# Altium footprint library Alcetronics_EM.PcbLib: 63 footprints (part 1 of 4)
Each footprint in its own frame and in the unit in brackets; x right, y up, seen from the top. Pads: shape width x height; smd on the part's side, far side on the other; paste and mask are expansions set on the pad; w line width, h text height; cw(c..) or ccw(c..) is an arc to the next point about the centre after c.
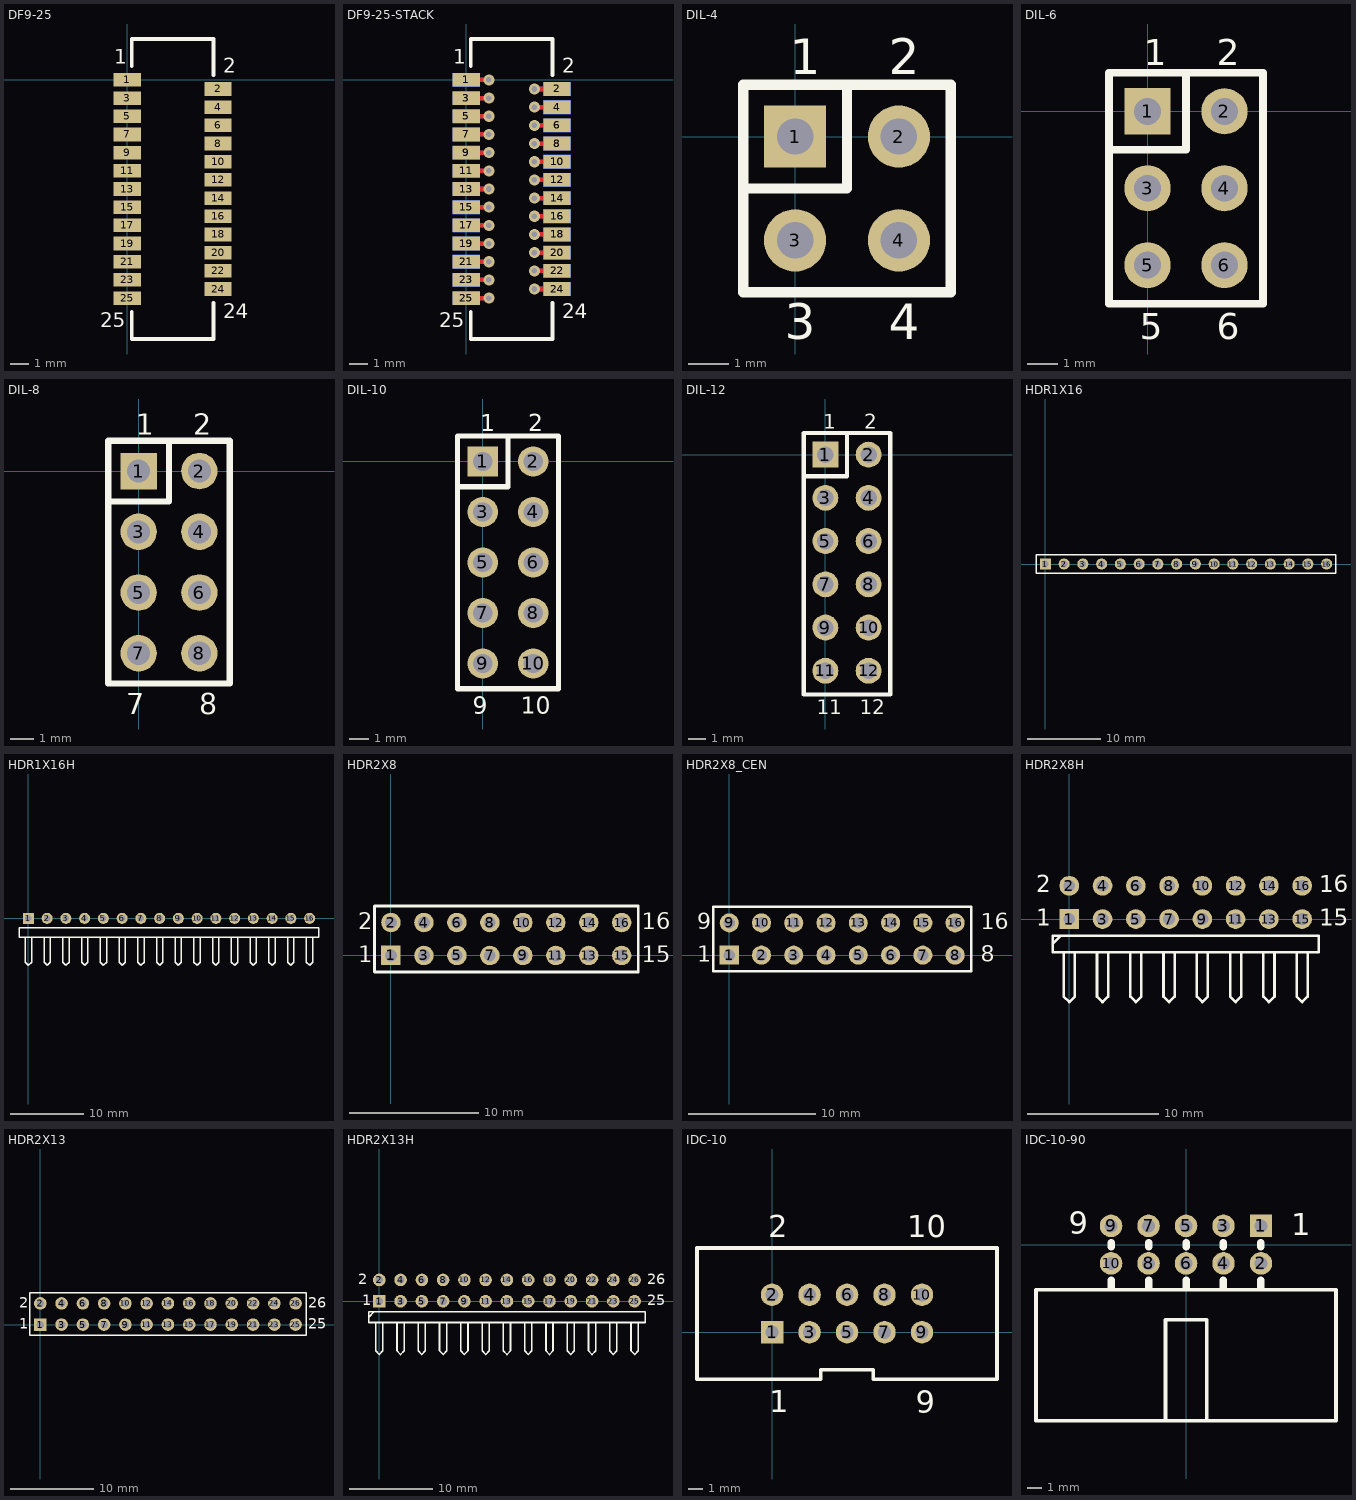
[diagram p0: the footprints below, top view; thin cyan lines are the x and y axes]

## DF9-25 [mm] "Hirose DF9 25P CON"
height 3.3
pads (25):
  rect 1.5x0.75 smd: 1(0,0) 2(5,-0.5) 3(0,-1) 4(5,-1.5) 5(0,-2) 6(5,-2.5) 7(0,-3) 8(5,-3.5) 9(0,-4) 10(5,-4.5) 11(0,-5) 12(5,-5.5) 13(0,-6) 14(5,-6.5) 15(0,-7) 16(5,-7.5) 17(0,-8) 18(5,-8.5) 19(0,-9) 20(5,-9.5) 21(0,-10) 22(5,-10.5) 23(0,-11) 24(5,-11.5) 25(0,-12)
Top Overlay:
  lines w0.2: 0.25,-12.75 0.25,-14.25 4.75,-14.25 4.75,-12.25 ; 0.25,0.75 0.25,2.25 4.75,2.25 4.75,0.25
  text "1" at -0.725,0.9 h0.8
  text "2" at 5.275,0.4 h0.8
  text "24" at 5.275,-13.1 h0.8
  text "25" at -1.475,-13.6 h0.8

## DF9-25-STACK [mm] "Hirose DF9 25P CON - STACKED"
height 3.3
pads (50):
  rect 1.5x0.75 smd: 1(0,0) 2(5,-0.5) 3(0,-1) 4(5,-1.5) 5(0,-2) 6(5,-2.5) 7(0,-3) 8(5,-3.5) 9(0,-4) 10(5,-4.5) 11(0,-5) 12(5,-5.5) 13(0,-6) 14(5,-6.5) 15(0,-7) 16(5,-7.5) 17(0,-8) 18(5,-8.5) 19(0,-9) 20(5,-9.5) 21(0,-10) 22(5,-10.5) 23(0,-11) 24(5,-11.5) 25(0,-12)
  rect 1.5x0.75 smd far side: 1(0,0) 2(5,-0.5) 3(0,-1) 4(5,-1.5) 5(0,-2) 6(5,-2.5) 7(0,-3) 8(5,-3.5) 9(0,-4) 10(5,-4.5) 11(0,-5) 12(5,-5.5) 13(0,-6) 14(5,-6.5) 15(0,-7) 16(5,-7.5) 17(0,-8) 18(5,-8.5) 19(0,-9) 20(5,-9.5) 21(0,-10) 22(5,-10.5) 23(0,-11) 24(5,-11.5) 25(0,-12)
via 3.75,-11.5 diameter 0.61 hole 0.305
via 3.75,-10.5 diameter 0.61 hole 0.305
via 3.75,-9.5 diameter 0.61 hole 0.305
via 3.75,-8.5 diameter 0.61 hole 0.305
via 3.75,-7.5 diameter 0.61 hole 0.305
via 3.75,-6.5 diameter 0.61 hole 0.305
via 3.75,-5.5 diameter 0.61 hole 0.305
via 3.75,-4.5 diameter 0.61 hole 0.305
via 3.75,-3.5 diameter 0.61 hole 0.305
via 3.75,-2.5 diameter 0.61 hole 0.305
via 3.75,-1.5 diameter 0.61 hole 0.305
via 3.75,-0.5 diameter 0.61 hole 0.305
via 1.25,-12 diameter 0.61 hole 0.305
via 1.25,-11 diameter 0.61 hole 0.305
via 1.25,-10 diameter 0.61 hole 0.305
via 1.25,-9 diameter 0.61 hole 0.305
via 1.25,-8 diameter 0.61 hole 0.305
via 1.25,-7 diameter 0.61 hole 0.305
via 1.25,-6 diameter 0.61 hole 0.305
via 1.25,-5 diameter 0.61 hole 0.305
via 1.25,-4 diameter 0.61 hole 0.305
via 1.25,-3 diameter 0.61 hole 0.305
via 1.25,-2 diameter 0.61 hole 0.305
via 1.25,-1 diameter 0.61 hole 0.305
via 1.25,0 diameter 0.61 hole 0.305
Top Layer:
  lines w0.25: 0,-12 1.25,-12 ; 0,-11 1.25,-11 ; 0,-10 1.25,-10 ; 0,-9 1.25,-9 ; 0,-8 1.25,-8 ; 0,-7 1.25,-7 ; 0,-6 1.25,-6 ; 0,-5 1.25,-5 ; 0,-4 1.25,-4 ; 0,-3 1.25,-3 ; 0,-2 1.25,-2 ; 0,-1 1.25,-1 ; 0,0 1.25,0 ; 3.75,-11.5 5,-11.5 ; 3.75,-10.5 5,-10.5 ; 3.75,-9.5 5,-9.5 ; 3.75,-8.5 5,-8.5 ; 3.75,-7.5 5,-7.5 ; 3.75,-6.5 5,-6.5 ; 3.75,-5.5 5,-5.5 ; 3.75,-4.5 5,-4.5 ; 3.75,-3.5 5,-3.5 ; 3.75,-2.5 5,-2.5 ; 3.75,-1.5 5,-1.5 ; 3.75,-0.5 5,-0.5
Bottom Layer:
  lines w0.25: 0,-12 1.25,-12 ; 0,-11 1.25,-11 ; 0,-10 1.25,-10 ; 0,-9 1.25,-9 ; 0,-8 1.25,-8 ; 0,-7 1.25,-7 ; 0,-6 1.25,-6 ; 0,-5 1.25,-5 ; 0,-4 1.25,-4 ; 0,-3 1.25,-3 ; 0,-2 1.25,-2 ; 0,-1 1.25,-1 ; 0,0 1.25,0 ; 3.75,-11.5 5,-11.5 ; 3.75,-10.5 5,-10.5 ; 3.75,-9.5 5,-9.5 ; 3.75,-8.5 5,-8.5 ; 3.75,-7.5 5,-7.5 ; 3.75,-6.5 5,-6.5 ; 3.75,-5.5 5,-5.5 ; 3.75,-4.5 5,-4.5 ; 3.75,-3.5 5,-3.5 ; 3.75,-2.5 5,-2.5 ; 3.75,-1.5 5,-1.5 ; 3.75,-0.5 5,-0.5
Top Overlay:
  lines w0.2: 0.25,-12.75 0.25,-14.25 4.75,-14.25 4.75,-12.25 ; 0.25,0.75 0.25,2.25 4.75,2.25 4.75,0.25
  text "1" at -0.725,0.9 h0.8
  text "2" at 5.275,0.4 h0.8
  text "24" at 5.275,-13.1 h0.8
  text "25" at -1.475,-13.6 h0.8
Bottom Overlay:
  lines w0.2: 0.25,-12.75 0.25,-14.25 4.75,-14.25 4.75,-12.25 ; 0.25,0.75 0.25,2.25 4.75,2.25 4.75,0.25
  text "24" at 6.475,-13.1 h0.8
  text "25" at -0.025,-13.6 h0.8
  text "2" at 5.725,0.4 h0.8
  text "1" at -0.525,0.9 h0.8

## DIL-4 [mil] "Dual inline 2x2 pins 2.54mm pitch"
pads (4):
  rect 60x60 hole 35: 1(0,0)
  round 60 hole 35: 2(100,0) 3(0,-100) 4(100,-100)
Top Overlay:
  lines w10: 50,50 50,-50 -50,-50 ; -50,-50 -50,-150 150,-150 150,-50 150,50 -50,50 -50,-50
  text "4" at 90,-195 h34
  text "3" at -10,-195 h34
  text "2" at 90,60 h34
  text "1" at -5,60 h34

## DIL-6 [mil] "Dual inline 2x3 pins 2.54mm pitch"
pads (6):
  rect 60x60 hole 35: 1(0,0)
  round 60 hole 35: 2(100,0) 3(0,-100) 4(100,-100) 5(0,-200) 6(100,-200)
Top Overlay:
  lines w10: 50,50 50,-50 -50,-50 ; -50,-50 -50,-250 150,-250 150,-50 150,50 -50,50 -50,-50
  text "1" at -5,60 h34
  text "6" at 90,-296 h34
  text "5" at -10,-296 h34
  text "2" at 90,60 h34

## DIL-8 [mil] "Dual inline 2x4 pins 2.54mm pitch"
pads (8):
  rect 60x60 hole 38: 1(0,0)
  round 60 hole 38: 2(100,0) 3(0,-100) 4(100,-100) 5(0,-200) 6(100,-200) 7(0,-300) 8(100,-300)
Top Overlay:
  lines w10: -50,-50 50,-50 50,50 ; -50,-350 -50,50 150,50 150,-350 -50,-350
  text "1" at -5,60 h34
  text "2" at 90,60 h34
  text "7" at -20,-400 h34
  text "8" at 100,-400 h34

## DIL-10 [mil] "Dual inline 2x5 pins 2.54mm pitch"
pads (10):
  rect 60x60 hole 38: 1(0,0)
  round 60 hole 38: 2(100,0) 3(0,-100) 4(100,-100) 5(0,-200) 6(100,-200) 7(0,-300) 8(100,-300) 9(0,-400) 10(100,-400)
Top Overlay:
  lines w10: -50,-50 50,-50 50,50 ; -50,-450 -50,50 150,50 150,-450 -50,-450
  text "2" at 90,60 h34
  text "1" at -5,60 h34
  text "9" at -20,-500 h34
  text "10" at 75,-500 h34

## DIL-12 [mil] "Dual inline 2x6 pins 2.54mm pitch"
pads (12):
  rect 60x60 hole 38: 1(0,0)
  round 60 hole 38: 2(100,0) 3(0,-100) 4(100,-100) 5(0,-200) 6(100,-200) 7(0,-300) 8(100,-300) 9(0,-400) 10(100,-400) 11(0,-500) 12(100,-500)
Top Overlay:
  lines w10: -50,-50 50,-50 50,50 ; -50,-555 -50,50 150,50 150,-555 -50,-555
  text "2" at 90,60 h34
  text "1" at -5,60 h34
  text "11" at -20,-600 h34
  text "12" at 80,-600 h34

## HDR1X16 [mm] "Connector; Header; 16 Position"
pads (16):
  rect 1.5x1.5 hole 0.9: 1(0,0)
  round 1.5 hole 0.9: 2(2.54,0) 3(5.08,0) 4(7.62,0) 5(10.16,0) 6(12.7,0) 7(15.24,0) 8(17.78,0) 9(20.32,0) 10(22.86,0) 11(25.4,0) 12(27.94,0) 13(30.48,0) 14(33.02,0) 15(35.56,0) 16(38.1,0)
Top Overlay:
  lines w0.2: -1.27,-1.27 -1.27,1.27 0.635,1.27 39.37,1.27 39.37,-1.27 -1.27,-1.27

## HDR1X16H [mm] "Connector; Header; 16 Position; Right Angle"
pads (16):
  rect 1.5x1.5 hole 0.9: 1(0,0)
  round 1.5 hole 0.9: 2(2.54,0) 3(5.08,0) 4(7.62,0) 5(10.16,0) 6(12.7,0) 7(15.24,0) 8(17.78,0) 9(20.32,0) 10(22.86,0) 11(25.4,0) 12(27.94,0) 13(30.48,0) 14(33.02,0) 15(35.56,0) 16(38.1,0)
Top Overlay:
  lines w0.2: -0.423,-2.54 -0.423,-5.927 0,-6.35 0.423,-5.927 0.423,-2.54 ; 2.117,-2.54 2.117,-5.927 2.54,-6.35 2.963,-5.927 2.963,-2.54 ; 4.657,-2.54 4.657,-5.927 5.08,-6.35 5.503,-5.927 5.503,-2.54 ; 7.197,-2.54 7.197,-5.927 7.62,-6.35 8.043,-5.927 8.043,-2.54 ; 9.737,-2.54 9.737,-5.927 10.16,-6.35 10.583,-5.927 10.583,-2.54 ; 12.277,-2.54 12.277,-5.927 12.7,-6.35 13.123,-5.927 13.123,-2.54 ; 14.817,-2.54 14.817,-5.927 15.24,-6.35 15.663,-5.927 15.663,-2.54 ; 17.357,-2.54 17.357,-5.927 17.78,-6.35 18.203,-5.927 18.203,-2.54 ; 19.897,-2.54 19.897,-5.927 20.32,-6.35 20.743,-5.927 20.743,-2.54 ; 22.437,-2.54 22.437,-5.927 22.86,-6.35 23.283,-5.927 23.283,-2.54 ; 24.977,-2.54 24.977,-5.927 25.4,-6.35 25.823,-5.927 25.823,-2.54 ; 27.517,-2.54 27.517,-5.927 27.94,-6.35 28.363,-5.927 28.363,-2.54 ; 30.057,-2.54 30.057,-5.927 30.48,-6.35 30.903,-5.927 30.903,-2.54 ; 32.597,-2.54 32.597,-5.927 33.02,-6.35 33.443,-5.927 33.443,-2.54 ; 35.137,-2.54 35.137,-5.927 35.56,-6.35 35.983,-5.927 35.983,-2.54 ; 37.677,-2.54 37.677,-5.927 38.1,-6.35 38.523,-5.927 38.523,-2.54 ; -1.27,-2.54 -1.27,-1.27 0.635,-1.27 39.37,-1.27 39.37,-2.54 -1.27,-2.54

## HDR2X8 [mm] "Connector; Header; 8x2 Position"
pads (16):
  rect 1.5x1.5 hole 0.9: 1(0,0)
  round 1.5 hole 0.9: 2(0,2.54) 3(2.54,0) 4(2.54,2.54) 5(5.08,0) 6(5.08,2.54) 7(7.62,0) 8(7.62,2.54) 9(10.16,0) 10(10.16,2.54) 11(12.7,0) 12(12.7,2.54) 13(15.24,0) 14(15.24,2.54) 15(17.78,0) 16(17.78,2.54)
Top Overlay:
  lines w0.2: -1.27,-1.27 -1.27,3.81 19.05,3.81 19.05,-1.27 -1.27,-1.27
  text "2" at -2.54,2.032 h1.27
  text "1" at -2.54,-0.508 h1.27
  text "15" at 19.304,-0.508 h1.27
  text "16" at 19.304,2.032 h1.27

## HDR2X8_CEN [mm] "Connector; Header; 8x2 Position"
pads (16):
  rect 1.5x1.5 hole 0.9: 1(0,0)
  round 1.5 hole 0.9: 2(2.54,0) 3(5.08,0) 4(7.62,0) 5(10.16,0) 6(12.7,0) 7(15.24,0) 8(17.78,0) 9(0,2.54) 10(2.54,2.54) 11(5.08,2.54) 12(7.62,2.54) 13(10.16,2.54) 14(12.7,2.54) 15(15.24,2.54) 16(17.78,2.54)
Top Overlay:
  lines w0.2: -1.27,-1.27 19.05,-1.27 19.05,3.81 -1.27,3.81 -1.27,-1.27
  text "16" at 19.812,2.032 h1.27
  text "8" at 19.812,-0.508 h1.27
  text "1" at -2.54,-0.508 h1.27
  text "9" at -2.54,2.032 h1.27

## HDR2X8H [mm] "Connector; Header; 8x2 Position; Right Angle"
pads (16):
  rect 1.5x1.5 hole 0.9: 1(0,0)
  round 1.5 hole 0.9: 2(0,2.54) 3(2.54,0) 4(2.54,2.54) 5(5.08,0) 6(5.08,2.54) 7(7.62,0) 8(7.62,2.54) 9(10.16,0) 10(10.16,2.54) 11(12.7,0) 12(12.7,2.54) 13(15.24,0) 14(15.24,2.54) 15(17.78,0) 16(17.78,2.54)
Top Overlay:
  lines w0.2: -1.27,-1.905 -0.635,-1.27 ; -0.423,-2.54 -0.423,-5.927 0,-6.35 0.423,-5.927 0.423,-2.54 ; 2.117,-2.54 2.117,-5.927 2.54,-6.35 2.963,-5.927 2.963,-2.54 ; 4.657,-2.54 4.657,-5.927 5.08,-6.35 5.503,-5.927 5.503,-2.54 ; 7.197,-2.54 7.197,-5.927 7.62,-6.35 8.043,-5.927 8.043,-2.54 ; 9.737,-2.54 9.737,-5.927 10.16,-6.35 10.583,-5.927 10.583,-2.54 ; 12.277,-2.54 12.277,-5.927 12.7,-6.35 13.123,-5.927 13.123,-2.54 ; 14.817,-2.54 14.817,-5.927 15.24,-6.35 15.663,-5.927 15.663,-2.54 ; 17.357,-2.54 17.357,-5.927 17.78,-6.35 18.203,-5.927 18.203,-2.54 ; -1.27,-2.54 19.05,-2.54 19.05,-1.27 -1.27,-1.27 -1.27,-2.54
  text "16" at 19.092,2.032 h1.27
  text "15" at 19.069,-0.508 h1.27
  text "1" at -2.54,-0.508 h1.27
  text "2" at -2.54,2.032 h1.27

## HDR2X13 [mm] "Connector; Header; 13x2 Position"
pads (26):
  rect 1.5x1.5 hole 0.9: 1(0,0)
  round 1.5 hole 0.9: 2(0,2.54) 3(2.54,0) 4(2.54,2.54) 5(5.08,0) 6(5.08,2.54) 7(7.62,0) 8(7.62,2.54) 9(10.16,0) 10(10.16,2.54) 11(12.7,0) 12(12.7,2.54) 13(15.24,0) 14(15.24,2.54) 15(17.78,0) 16(17.78,2.54) 17(20.32,0) 18(20.32,2.54) 19(22.86,0) 20(22.86,2.54) 21(25.4,0) 22(25.4,2.54) 23(27.94,0) 24(27.94,2.54) 25(30.48,0) 26(30.48,2.54)
Top Overlay:
  lines w0.2: -1.27,-1.27 31.75,-1.27 31.75,3.81 -1.27,3.81 -1.27,-1.27
  text "26" at 32.004,2.032 h1.27
  text "25" at 32.004,-0.508 h1.27
  text "1" at -2.54,-0.508 h1.27
  text "2" at -2.54,2.032 h1.27

## HDR2X13H [mm] "Connector; Header; 13x2 Position; Right Angle"
pads (26):
  rect 1.5x1.5 hole 0.9: 1(0,0)
  round 1.5 hole 0.9: 2(0,2.54) 3(2.54,0) 4(2.54,2.54) 5(5.08,0) 6(5.08,2.54) 7(7.62,0) 8(7.62,2.54) 9(10.16,0) 10(10.16,2.54) 11(12.7,0) 12(12.7,2.54) 13(15.24,0) 14(15.24,2.54) 15(17.78,0) 16(17.78,2.54) 17(20.32,0) 18(20.32,2.54) 19(22.86,0) 20(22.86,2.54) 21(25.4,0) 22(25.4,2.54) 23(27.94,0) 24(27.94,2.54) 25(30.48,0) 26(30.48,2.54)
Top Overlay:
  lines w0.2: -1.27,-1.905 -0.635,-1.27 ; -0.423,-2.54 -0.423,-5.927 0,-6.35 0.423,-5.927 0.423,-2.54 ; 2.117,-2.54 2.117,-5.927 2.54,-6.35 2.963,-5.927 2.963,-2.54 ; 4.657,-2.54 4.657,-5.927 5.08,-6.35 5.503,-5.927 5.503,-2.54 ; 7.197,-2.54 7.197,-5.927 7.62,-6.35 8.043,-5.927 8.043,-2.54 ; 9.737,-2.54 9.737,-5.927 10.16,-6.35 10.583,-5.927 10.583,-2.54 ; 12.277,-2.54 12.277,-5.927 12.7,-6.35 13.123,-5.927 13.123,-2.54 ; 14.817,-2.54 14.817,-5.927 15.24,-6.35 15.663,-5.927 15.663,-2.54 ; 17.357,-2.54 17.357,-5.927 17.78,-6.35 18.203,-5.927 18.203,-2.54 ; 19.897,-2.54 19.897,-5.927 20.32,-6.35 20.743,-5.927 20.743,-2.54 ; 22.437,-2.54 22.437,-5.927 22.86,-6.35 23.283,-5.927 23.283,-2.54 ; 24.977,-2.54 24.977,-5.927 25.4,-6.35 25.823,-5.927 25.823,-2.54 ; 27.517,-2.54 27.517,-5.927 27.94,-6.35 28.363,-5.927 28.363,-2.54 ; 30.057,-2.54 30.057,-5.927 30.48,-6.35 30.903,-5.927 30.903,-2.54 ; -1.27,-2.54 31.75,-2.54 31.75,-1.27 -1.27,-1.27 -1.27,-2.54
  text "2" at -2.54,2.032 h1.27
  text "1" at -2.032,-0.508 h1.27
  text "25" at 32.004,-0.508 h1.27
  text "26" at 32.004,2.032 h1.27

## IDC-10 [mil]
pads (10):
  rect 60x60 hole 35: 1(0,0)
  round 60 hole 35: 2(0,100) 3(100,0) 4(100,100) 5(200,0) 6(200,100) 7(300,0) 8(300,100) 9(400,0) 10(400,100)
Top Overlay:
  lines w10: -200,-125 130,-125 130,-100 270,-100 270,-125 600,-125 600,225 -200,225 -200,-125
  text "9" at 382.87,-214.57 h59.06
  text "10" at 360.24,252.95 h59.06
  text "2" at -9.84,252.95 h59.06
  text "1" at -6.89,-213.58 h59.06
Bottom Overlay:
  circle w10: c400,100 r50
  circle w10: c200,0 r50

## IDC-10-90 [mil]
pads (10):
  rect 60x60 hole 35: 1(200,50)
  round 60 hole 35: 2(200,-50) 3(100,50) 4(100,-50) 5(0,50) 6(0,-50) 7(-100,50) 8(-100,-50) 9(-200,50) 10(-200,-50)
Top Overlay:
  lines w10: -55,-470 -55,-200 55,-200 55,-470 ; -400,-470 400,-470 400,-120 -400,-120 -400,-470
  lines w20: -200,-115 -200,-95 ; -200,-5 -200,5 ; -100,-115 -100,-95 ; -100,-5 -100,5 ; 0,-115 0,-95 ; 0,-5 0,5 ; 100,-115 100,-95 ; 100,-5 100,5 ; 200,-115 200,-95 ; 200,-5 200,5
  text "9" at -312.99,29.53 h59.06
  text "1" at 280.51,24.61 h59.06
Bottom Overlay:
  circle w10: c0,50 r50
  circle w10: c-200,-50 r50